# EAGLE library part DA2033-AL (library inductor-coilcraft-2)
Flyback Transformer for Linear Technology LT3750 Reference: http://www.coilcraft.com/da2032.cfm L - 10 uH TurnsRatio Pri:Sec - 1:10 Ipeak - 5.0 A Interwinding capacitance - 76 pF DCRmax: Pri - 0.015, Sec - 1.10 Ohms
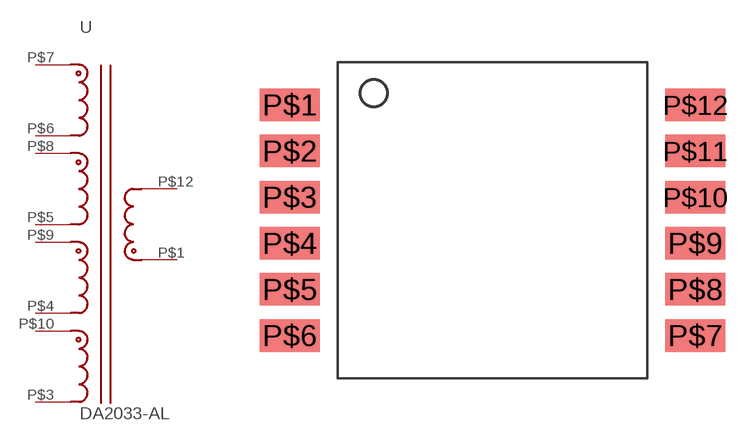
[diagram p2: symbol with the pads of DA2033-AL; footprint DA2033-AL]

Designator prefix -

## DA2033-AL  [DA2033-AL]
P$1  1  pas
P$3  3  pas
P$4  4  pas
P$5  5  pas
P$6  6  pas
P$7  7  pas
P$8  8  pas
P$9  9  pas
P$10  10  pas
P$12  12  pas

## Footprint DA2033-AL (pad centres in mm)
smd 3.3 x 1.79: P$1 -11.15,6.35; P$2 -11.15,3.81; P$3 -11.15,1.27; P$4 -11.15,-1.27; P$5 -11.15,-3.81; P$6 -11.15,-6.35; P$7 11.15,-6.35; P$8 11.15,-3.81; P$9 11.15,-1.27; P$10 11.15,1.27; P$11 11.15,3.81; P$12 11.15,6.35